# EAGLE library part BQ27510DRZR-G2 (library MyParts)
System-Side Impedance Track? Fuel Gauge With Direct Battery Connection http://focus.ti.com/lit/ds/symlink/bq27510-g2.pdf
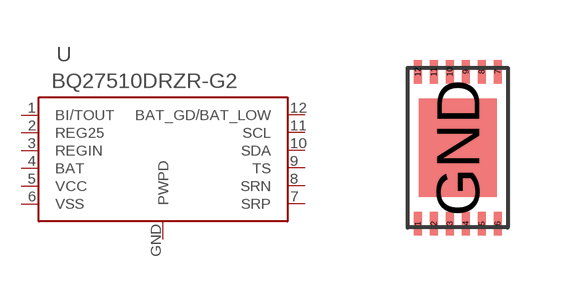
[diagram p5: symbol with the pads of SON12; footprint SON12]

Designator prefix -

## BQ27510DRZR-G2  [SON12]
1  BI/TOUT
2  REG25
3  REGIN
4  BAT
5  VCC
6  VSS
7  SRP
8  SRN
9  TS
10  SDA
11  SCL
12  BAT_GD/BAT_LOW
GND  PWPD

## Footprint SON12 (pad centres in mm)
smd 0.2 x 0.6: 1 -1,-1.9; 2 -0.6,-1.9; 3 -0.2,-1.9; 4 0.2,-1.9; 5 0.6,-1.9; 6 1,-1.9; 7 1,1.9; 8 0.6,1.9; 9 0.2,1.9; 10 -0.2,1.9; 11 -0.6,1.9; 12 -1,1.9
smd 1.95 x 2.45: GND 0,0